# Altium schematic symbol library osc.SchLib: 16 symbols
Pins are listed as number, name and electrical type; pins without a type are passive.

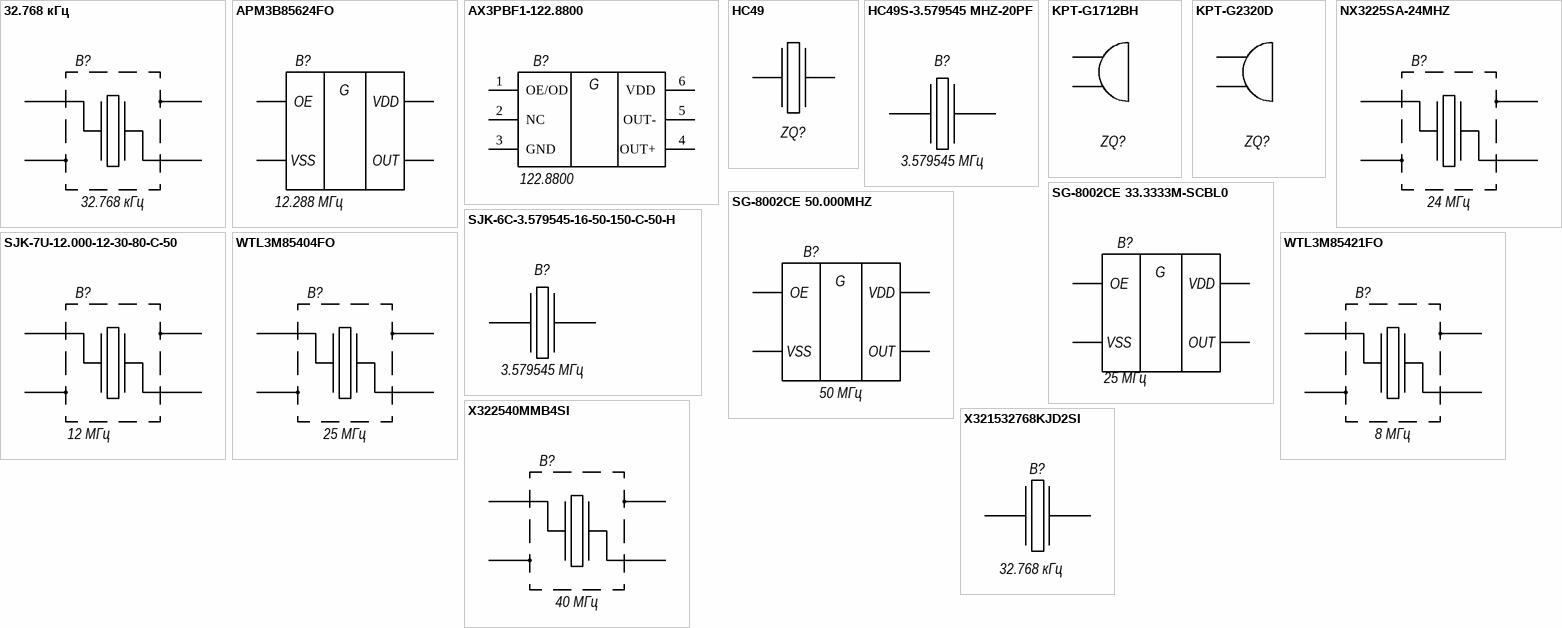
[diagram p0: symbols 32.768 кГц to X321532768KJD2SI]

## 32.768 кГц
designator B?
QSMD 3225 32.768 кГц ±10ppm 12pF; Part Number: 32.768 кГц; Package: QSMD 3225; BOM1: QSMD 3225 32.768 кГц ±10ppm; BOM2: QSMD 3225 32.768 кГц ±10ppm; Value: 32.768 кГц; ValueBOM: 32.768 кГц
footprint QSMD3.2x2.5x0.8
pins: 1, 2, 3, 4

## APM3B85624FO
designator B?, comment 12.288 МГц
APM3B85624FO QSMD 3225 12.288 MHz 3.2X2.5MM SMD Programmable Oscillator; Manufacturer: APEMIC; BOM1: QSMD 3225 APM3B85624FO 12.288 MHz; ValueBOM: APM3B85624FO   APEMIC; Part Number: APM3B85624FO; Package: 3225; BOM2: QSMD 3225 APM3B85624FO 12.288 MHz; Value: 12.288 МГц
footprint QSMD3.2x2.5x0.8
pins: 1, 2, 3, 4
text: G; OE; VDD; VSS; OUT

## AX3PBF1-122.8800
designator B?, comment 122.8800
AX3PBF1-122.8800 Ultra-Low Jitter & Power Optimized 3.2 x 2.5 mm XO; Manufacturer: Abracon; BOM1: QSMD 3225 AX3PBF1-122.8800; ValueBOM: AX3PBF1-122.8800   Abracon; Part Number: AX3PBF1-122.8800; Package: 3225; BOM2: QSMD 3225 AX3PBF1-122.8800; Value: 122.8800
footprint AX3_QSMD3.2x2.5x0.8
pins: 1 OE/OD, 2 NC, 3 GND, 4 OUT+, 5 OUT-, 6 VDD
text: G

## HC49
designator ZQ?, comment 8.000 МГц HC-49S 20pF  (value not drawn)
Vendor Code: *; Value: 8.000 МГц HC-49S 20pF
footprint HC-49S (HC49 Short Through-hole Mount Footprint)
pins: 1, 2

## HC49S-3.579545 MHZ-20PF
designator B?, comment 3.579545 МГц
HC49S-3.579545 МГц ±30ppm 20 пФ; Manufacturer: Caltron Devices; BOM1: HC49S-3.579545M Hz ±30ppm 20pF; ValueBOM: HC49S-3.579545   Caltron Devices; Part Number: HC49S-3.579545; Package: HC-49/S; BOM2: HC49S-3.579545 МГц ±30ppm 20 пФ; Value: 3.579545 МГц
footprint HC-49S (HC49 Short Through-hole Mount Footprint)
footprint HC-49U (HC49 Through-hole Mount Footprint)
footprint HC-49/US
pins: 1, 2

## KPT-G1712BH
designator ZQ?, comment Piezo Transducer  (value not drawn)
70dB at 3Vp-p/2.0KHz/10cm; Vendor Code: KPT-G1712BH; Value: 70dB at 3Vp-p/2.0KHz/10cm
footprint KPT-G1712BH (Piezo Transducer KPT-G1712BH)
pins: 1, 2

## KPT-G2320D
designator ZQ?  (value not drawn)
78dB at 9Vp-p/2.0KHz/10cm; Part Number: KPT-G2320D; Value: 78dB at 9Vp-p/2.0KHz/10cm
footprint KPT-G2320D (Piezo Transducer KPT-G2320D)
pins: 1, 2

## NX3225SA-24MHZ
designator B?, comment 24 МГц
QSMD 3225 24 МГц 20/15ppm 18pF; Part Number: NX3225SA-24MHZ; Manufacturer: Nihon Dempa Kogyo; BOM1: QSMD 3225 24 MHz ±20ppm; BOM2: QSMD 3225 24 МГц ±20ppm; ValueBOM: NX3225SA-24MHZ   Nihon Dempa Kogyo; Package: 3225; Value: 24 МГц
footprint QSMD3.2x2.5x0.8
pins: 1, 2, 3, 4

## SG-8002CE 33.3333M-SCBL0
designator B?, comment 25 МГц
SG-8002CE 33.3333M-SCBL0; Manufacturer: EPSON; BOM1: QSMD 3225 SG-8002CE 33.3333M-SCBL0; ValueBOM: SG-8002CE 33.3333M-SCBL0   EPSON; Part Number: SG-8002CE 33.3333M-SCBL0; Package: 3225; BOM2: QSMD 3225 SG-8002CE 33.3333M-SCBL0; Value: 25 МГц
footprint QSMD3.2x2.5x0.8
pins: 1, 2, 3, 4
text: G; OE; VDD; VSS; OUT

## SG-8002CE 50.000MHZ
designator B?, comment 50 МГц
SG-8002CE 50.000MHZ; Manufacturer: EPSON; BOM1: QSMD 3225 SG-8002CE 50.000MHZ; ValueBOM: SG-8002CE 50.000MHZ   EPSON; Part Number: SG-8002CE 50.000MHZ; Package: 3225; BOM2: QSMD 3225 SG-8002CE 50.000MHZ; Value: 50 МГц
footprint QSMD3.2x2.5x0.8
pins: 1, 2, 3, 4
text: G; OE; VDD; VSS; OUT

## SJK-6C-3.579545-16-50-150-C-50-H
designator B?, comment 3.579545 МГц
HC49/US-3.579545 МГц ±30ppm 20 пФ; Part Number: SJK-6C-3.579545-16-50-150-C-50-H; Manufacturer: SJK; BOM1: HC49S-3.579545M Hz ±30ppm 20pF; BOM2: HC49S-3.579545 МГц ±30ppm 20 пФ; ValueBOM: SJK-6C-3.579545-16-50-150-C-50-H   SJK; Package: HC-49/US; Value: 3.579545 МГц
footprint HC-49/US
pins: 1, 2

## SJK-7U-12.000-12-30-80-C-50
designator B?, comment 12 МГц
QSMD 3225 12 МГц ±30ppm 12 пФ; Part Number: SJK-7U-12.000-12-30-80-C-50; Manufacturer: GEYER; BOM1: 12 MHz ±30ppm 12 pF; ValueBOM: SJK-7U-12.000-12-30-80-C-50   GEYER; Package: 3225; BOM2: 12 МГц ±30ppm 12 пФ; Value: 12 МГц
footprint QSMD3.2x2.5x0.8
pins: 1, 2, 3, 4

## WTL3M85404FO
designator B?, comment 25 МГц
QSMD 3225 25 МГц ±20ppm 18pF; Part Number: WTL3M85404FO; Manufacturer: WTL International Limited; BOM1: QSMD 3225 25 MHz ±20ppm; ValueBOM: WTL3M85404FO   WTL International Limited; Package: 3225; BOM2: QSMD 3225 25 МГц ±20ppm; Value: 25 МГц
footprint QSMD3.2x2.5x0.8
pins: 1, 2, 3, 4

## WTL3M85421FO
designator B?, comment 8 МГц
QSMD 3225 8 МГц ±20ppm 12pF; Part Number: WTL3M85421FO; Manufacturer: WTL International Limited; BOM1: QSMD 3225 8 MHz ±20ppm; ValueBOM: WTL3M85421FO   WTL International Limited; Package: 3225; BOM2: QSMD 3225 8 МГц ±20ppm; Value: 8 МГц
footprint QSMD3.2x2.5x0.8
pins: 1, 2, 3, 4

## X322540MMB4SI
designator B?, comment 40 МГц
QSMD 3225 40 МГц ±20ppm 12pF; Part Number: X322540MMB4SI; Manufacturer: YXC Crystal Oscillator Manufacturer; BOM1: QSMD 3225 40 MHz ±20ppm; ValueBOM: X322540MMB4SI   YXC Crystal Oscillator Manufacturer; Package: 3225; BOM2: QSMD 3225 40 МГц ±20ppm; Value: 40 МГц
footprint QSMD3.2x2.5x0.8
pins: 1, 2, 3, 4

## X321532768KJD2SI
designator B?, comment 32.768 кГц
Quartz resonator 32.768 kHz 20 ppm 1.2 pF SMD 3.2 x 1.5 x 0.75 mm, -40...+85°C; Part Number: X321532768KJD2SI; BOM1: QSMD 3215 32.768 кГц ±10ppm X321532768KJD2SI; Package: QSMD 3215; BOM2: QSMD 3215 32.768 кГц ±10ppm X321532768KJD2SI; Value: 32.768 кГц; ValueBOM: X321532768KJD2SI
footprint 3215_32768KHZ
pins: 1, 2